# Altium schematic symbol library TLV3602DGKR.SchLib: 1 symbol
Pins are listed as number, name and electrical type; pins without a type are passive.

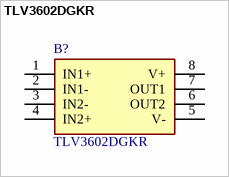
[diagram p0: symbol TLV3602DGKR]

## TLV3602DGKR
designator B?
Analog Comparators 2.5-ns, dual-channel high-speed rail-to-rail comparator with push-pull outputs; Manufacturer_Name: Texas Instruments; Geometry.Height: 1.1mm; Mouser Part Number: 595-TLV3602DGKR; Mouser Price/Stock: https://www.mouser.co.uk/ProductDetail/Texas-Instruments/TLV3602DGKR?qs=IPgv5n7u5QZ693tOyGXgLw%3D%3D; Manufacturer_Part_Number: TLV3602DGKR; Datasheet Link: https://www.mouser.de/ProductDetail/Texas-Instruments/TLV3602DGKR?qs=IPgv5n7u5QZ693tOyGXgLw%3D%3D
footprint SOP65P490X110-8N
pins: 1 IN1+, 2 IN1-, 3 IN2-, 4 IN2+, 5 V-, 6 OUT2, 7 OUT1, 8 V+